# Altium schematic symbol library 0805 10K.Schlib: 1 symbol
Pins are listed as number, name and electrical type; pins without a type are passive.

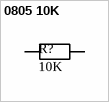
[diagram p0: symbol 0805 10K]

## 0805 10K
designator R?, comment value 10K  (hidden comment: Resistor)
10kΩ ±1% 0.125W ±100ppm/℃ 0805 Chip Resistor - Surface Mount RoHS; ComponentLink1Description: LCSC - UNI-ROYAL(Uniroyal Elec) 0805W8F1002T5E; ComponentLink1URL: https://lcsc.com/product-detail/Chip-Resistor-Surface-Mount_Uniroyal-Elec-0805W8F1002T5E_C17414.html/?href=jlc-SMT; LCSC Part #: C17414
footprint RES 0805_2012 (Chip Resistor, 2-Leads, Body 2.00x1.25mm, IPC Medium Density)
pins: 1, 2